# Altium footprint library 英雄云台V1.施佳良.PcbLib: 30 footprints (part 2 of 2)
Each footprint in its own frame and in the unit in brackets; x right, y up, seen from the top. Pads: shape width x height; smd on the part's side, far side on the other; paste and mask are expansions set on the pad; w line width, h text height; cw(c..) or ccw(c..) is an arc to the next point about the centre after c.
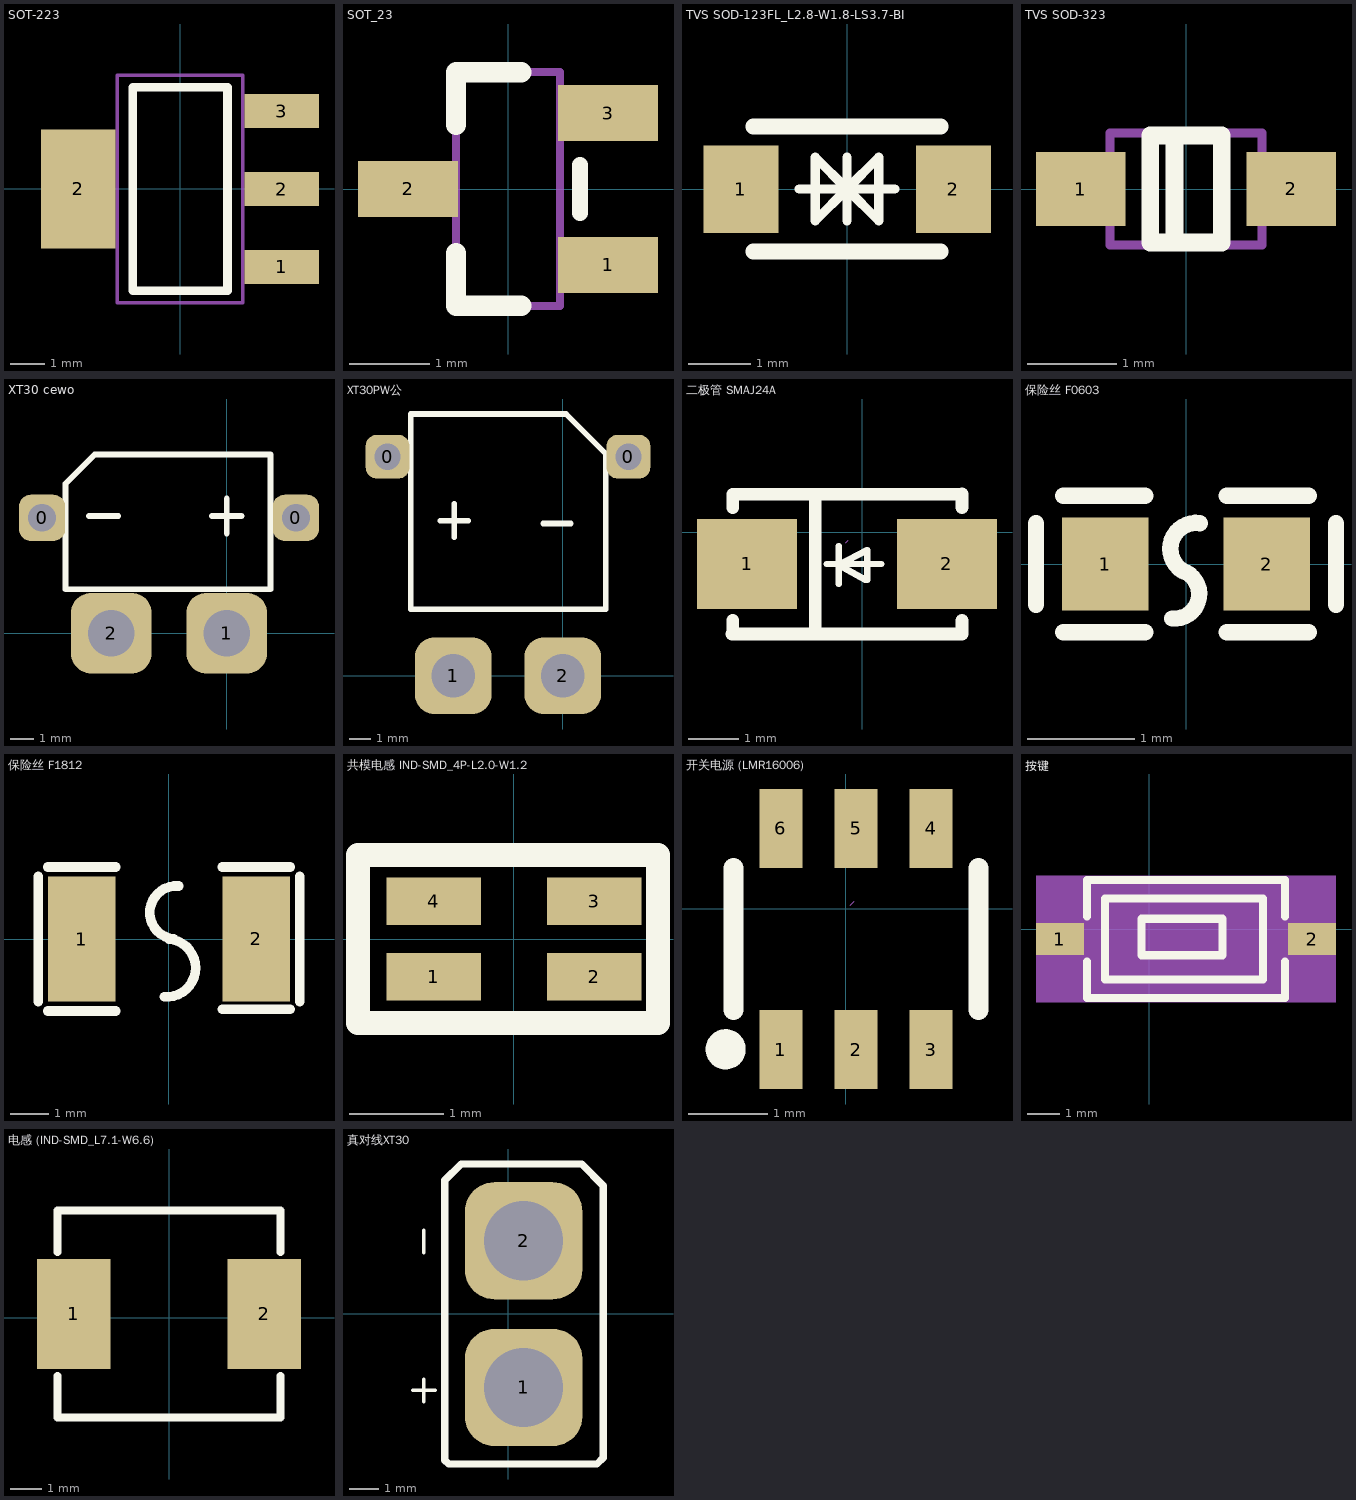
[diagram p1: the footprints below, top view; thin cyan lines are the x and y axes]

## SOT-223 [mm]
pads (4):
  rect 2.2x1 smd: 1(3,-2.3) 2(3,0) 3(3,2.3)
  rect 2.2x3.5 smd: 2(-3,0)
Top Overlay:
  lines w0.254: -1.4,-3 -1.4,3 1.4,3 1.4,-3 -1.4,-3
Mechanical 13:
  lines w0.1: -1.85,-3.35 1.85,-3.35 1.85,3.35 -1.85,3.35 -1.85,-3.35
3D body "TO-223.STEP": height 1.64, standoff -0.04, extent -3.49,-3.242 3.49,3.243

## SOT_23 [mm]
pads (3):
  rect 1.25x0.7 smd: 1(1.25,-0.95) 2(-1.25,0) 3(1.25,0.95)
Top Overlay:
  lines w0.2: 0.9,-0.3 0.9,0.3
  lines w0.254: -0.65,-0.8 -0.65,-1.46 0.165,-1.46 ; 0.165,1.46 -0.65,1.46 ; -0.65,0.8 -0.65,1.46 ; -0.65,0.8 -0.65,1.46 ; -0.65,0.8 -0.65,1.46
Mechanical 13:
  lines w0.1: -0.65,-1.46 -0.65,1.46 ; -0.65,-1.46 0.65,-1.46 ; -0.65,-1.46 -0.65,1.46 ; -0.65,-1.46 0.65,-1.46 ; -0.65,-1.46 0.65,-1.46 ; -0.65,-1.46 -0.65,1.46 ; -0.65,1.46 0.65,1.46 ; -0.65,1.46 0.65,1.46 ; -0.65,1.46 0.65,1.46 ; 0.65,-1.46 0.65,1.46 ; 0.65,-1.46 0.65,1.46 ; 0.65,-1.46 0.65,1.46
3D body "SOT-23.step": height 1.3, standoff 0, extent -1.5,-1.5 1.5,1.5

## TVS SOD-123FL_L2.8-W1.8-LS3.7-BI [mm]
pads (2):
  rect 1.2x1.4 smd: 1(-1.7,0) 2(1.7,0)
Top Overlay:
  lines w0.15: -0.762,0 0.762,0 ; 0,-0.508 0,0.508 ; 0,-0.254 0,0.254 ; 0,0 -0.508,0.508 -0.508,-0.508 0,0 ; 0,0 0.508,-0.508 0.508,0.508 0,0
  lines w0.254: -1.5,-1 1.5,-1 ; -1.5,1 1.5,1

## TVS SOD-323 [mm]
pads (2):
  rect 1x0.83 smd: 1(-1.18,0) 2(1.18,0)
Top Overlay:
  lines w0.2: -0.13,-0.6 -0.13,0.6 ; -0.4,-0.6 -0.4,0.6 0.4,0.6 0.4,-0.6 -0.4,-0.6
Mechanical 13:
  lines w0.1: -0.85,-0.625 -0.85,0.625 0.85,0.625 0.85,-0.625 -0.85,-0.625
3D body "SOD323.STEP": height 1.1, standoff 0, extent -1.35,-0.625 1.35,0.625

## XT30 cewo [mm]
pads (4):
  rrect50% 2x2 hole 1.2: 0(-8,5) 0(3,5)
  rrect50% 3.5x3.5 hole 2: 1(0,0) 2(-5,0)
Top Overlay:
  lines w0.254: -5.969,5.08 -4.699,5.08 ; -0.635,5.08 0.635,5.08 ; 0,4.318 0,5.842 ; -6.985,1.905 -6.985,6.477 -5.715,7.747 1.905,7.747 1.905,1.905 -6.985,1.905
3D body "User Library-XT30PW-F.STEP": height 5, standoff -2, extent -9.114,-1.06 4.186,13.84

## XT30PW公 [mm]
height 6.86
pads (4):
  rrect50% 2x2 hole 1.2: 0(-8,10) 0(3,10)
  rrect50% 3.5x3.5 hole 2: 1(-5,0) 2(0,0)
Top Overlay:
  lines w0.254: -5.585,7.08 -4.315,7.08 ; -4.95,6.318 -4.95,7.842 ; -0.895,6.95 0.375,6.95 ; -6.935,3.025 -6.935,11.95 0.15,11.95 1.955,10.145 1.955,3.025 -6.935,3.025
3D body: height 5, standoff 0, extent -7.425,2.775 2.425,12.125

## 二极管 SMAJ24A [mm]
pads (2):
  rect 2x1.8 smd: 1(-2.302,-0.632) 2(1.698,-0.632)
Top Overlay:
  lines w0.127: -0.708,-0.632 0.384,-0.632 ; -0.468,-1.033 -0.468,-0.652 ; -0.468,-0.271 -0.468,-0.652 ; 0.074,-0.953 -0.468,-0.652 ; 0.104,-0.953 0.104,-0.353 -0.468,-0.652
  lines w0.254: -2.602,-2.032 1.998,-2.032 1.998,-1.763 ; -2.588,-2.032 -2.588,-1.763 ; -2.588,0.499 -2.588,0.765 1.998,0.765 ; -0.937,-2.032 -0.937,0.765 ; 1.998,0.499 1.998,0.768
Mechanical 15:
  lines w0.003: -0.327,-0.208 -0.277,-0.157

## 保险丝 F0603 [mm]
pads (2):
  rect 0.806x0.864 smd: 1(-0.753,0) 2(0.753,0)
Top Overlay:
  lines w0.152: -1.397,-0.381 -1.397,0.381 ; -1.143,-0.635 -0.381,-0.635 ; -1.143,0.635 -0.381,0.635 ; -0.127,-0.508 ccw(c-0.107,-0.28) -0.031,-0.063 ; -0.032,-0.064 cw(c0.096,0.142) 0.127,0.381 ; 0.381,-0.635 1.143,-0.635 ; 0.381,0.635 1.143,0.635 ; 1.397,-0.381 1.397,0.381
Top Paste:
  region: 0.315,-0.138 0.315,0.138 0.589,0.432 1.092,0.432 1.156,0.368 1.156,-0.368 1.092,-0.432 0.589,-0.432
  region: -0.315,-0.138 -0.315,0.138 -0.589,0.432 -1.092,0.432 -1.156,0.368 -1.156,-0.368 -1.092,-0.432 -0.589,-0.432

## 保险丝 F1812 [mm]
pads (2):
  rect 1.78x3.3 smd: 1(-2.305,0) 2(2.305,0)
Top Overlay:
  lines w0.254: -3.45,-1.65 -3.45,1.65 ; -3.2,-1.9 -1.4,-1.9 ; -3.2,1.9 -1.4,1.9 ; -0.127,-1.524 ccw(c-0.064,-0.762) -0.001,0 ; 0.127,0 cw(c0.195,0.698) 0.254,1.397 ; 1.4,-1.85 3.2,-1.85 ; 1.4,1.9 3.2,1.9 ; 3.45,-1.65 3.45,1.65

## 共模电感 IND-SMD_4P-L2.0-W1.2 [mm]
pads (4):
  rect 1x0.5 smd: 1(-0.85,-0.4) 2(0.85,-0.4) 3(0.85,0.4) 4(-0.85,0.4)
Top Overlay:
  lines w0.254: -1.651,-0.889 -1.651,0.889 1.524,0.889 1.524,-0.889 -1.651,-0.889

## 开关电源 (LMR16006) [mm]
pads (6):
  rect 0.55x1 smd: 1(-0.823,-1.786) 2(0.127,-1.786) 3(1.077,-1.786) 4(1.077,1.014) 5(0.127,1.014) 6(-0.823,1.014)
Top Overlay:
  circle w0.254: c-1.524,-1.783 r0.127
  lines w0.254: -1.423,-1.286 -1.423,0.514 ; 1.677,-1.286 1.677,0.514
Mechanical 15:
  lines w0.003: 0.051,0.042 0.102,0.093

## 按键 [mm]
pads (2):
  rect 1.5x1 smd: 1(-2.806,-0.309) 2(5.094,-0.309)
Top Overlay:
  lines w0.254: -1.956,-1.017 -1.956,-2.159 4.244,-2.159 4.244,-1.017 ; -1.956,0.399 -1.956,1.541 4.244,1.541 4.244,0.399 ; -1.396,-1.579 -1.396,0.961 3.557,0.961 3.557,-1.579 -1.396,-1.579 ; -0.253,-0.817 2.287,-0.817 2.287,0.326 -0.253,0.326 -0.253,-0.817
Mechanical 4:
  region: -3.556,1.668 5.844,1.668 5.844,-2.286 -3.556,-2.286
Mechanical 5:
  region: -3.556,0.191 -2.056,0.191 -2.056,-0.809 -3.556,-0.809
  region: 4.344,0.191 5.844,0.191 5.844,-0.809 4.344,-0.809
Mechanical 15:
  lines w0.003: 1.119,0.106 1.169,0.157

## 电感 (IND-SMD_L7.1-W6.6) [mm]
height 6.86
pads (2):
  rect 2.35x3.5 smd: 1(-3.035,0.127) 2(3.035,0.127)
Top Overlay:
  lines w0.254: -3.55,-1.854 -3.55,-3.173 3.55,-3.173 3.55,-1.854 ; -3.55,2.108 -3.55,3.427 3.55,3.427 3.55,2.108

## 真对线XT30 [mm]
pads (2):
  rrect50% 4x4 hole 2.7: 1(0.533,-2.517) 2(0.533,2.483)
Top Overlay:
  lines w0.127: -3.251,-2.616 -2.489,-2.616 ; -2.87,-2.997 -2.87,-2.235 ; -2.87,2.083 -2.87,2.845
  lines w0.254: -1.805,-5.126 3.033,-5.126 3.251,-4.908 3.251,4.363 2.514,5.099 -1.591,5.099 -2.149,4.54 -2.149,-4.106 -2.149,-4.995 -2.018,-5.126 -1.804,-5.126
3D body "User Library-XT30.STEP": height 12.6, standoff -2.9, extent -2.074,-5.149 3.226,5.251